# EAGLE library part HF62 (library con-subd)
HARTING SUB-D
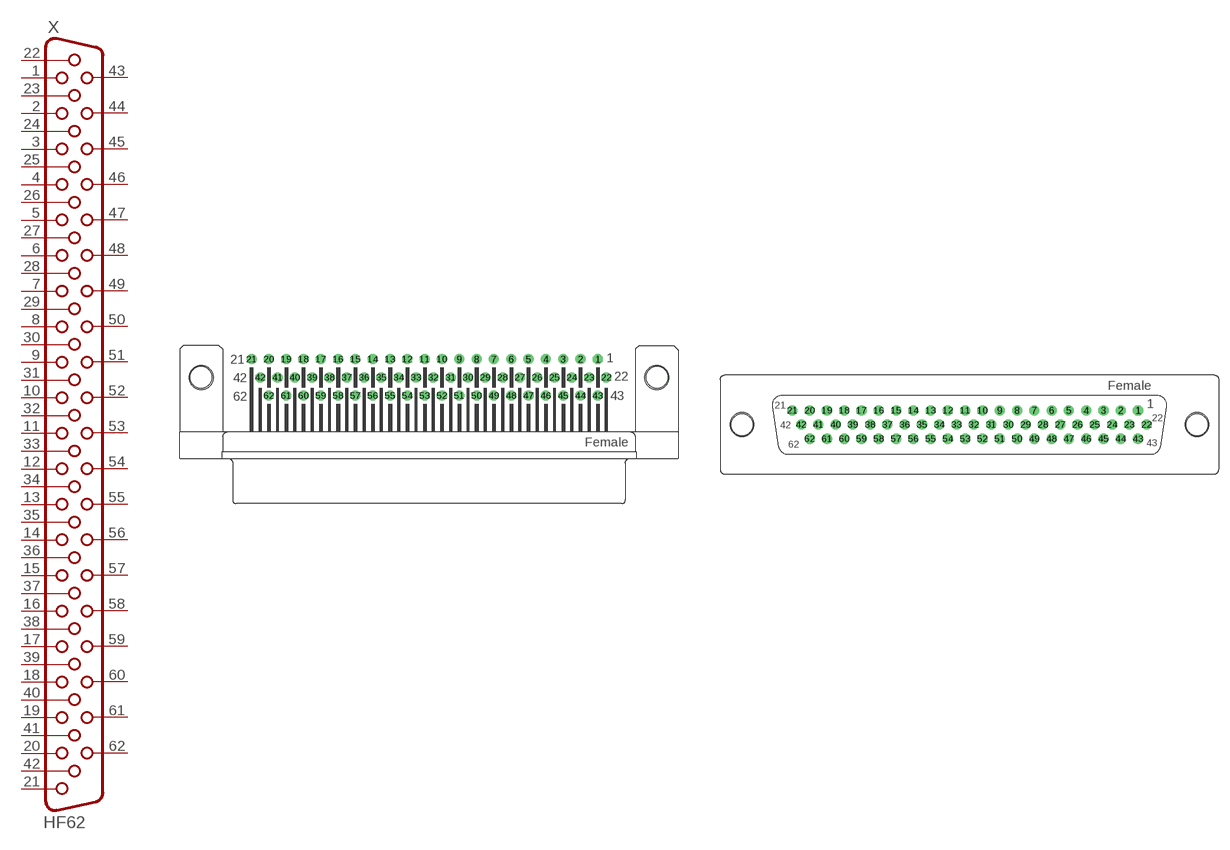
[diagram p7: symbol with the pads of HDF62H; footprints HDF62H, HDF62V]

Designator prefix X

## HF62H  [HDF62H]
1  1  pas
2  2  pas
3  3  pas
4  4  pas
5  5  pas
6  6  pas
7  7  pas
8  8  pas
9  9  pas
10  10  pas
11  11  pas
12  12  pas
13  13  pas
14  14  pas
15  15  pas
16  16  pas
17  17  pas
18  18  pas
19  19  pas
20  20  pas
21  21  pas
22  22  pas
23  23  pas
24  24  pas
25  25  pas
26  26  pas
27  27  pas
28  28  pas
29  29  pas
30  30  pas
31  31  pas
32  32  pas
33  33  pas
34  34  pas
35  35  pas
36  36  pas
37  37  pas
38  38  pas
39  39  pas
40  40  pas
41  41  pas
42  42  pas
43  43  pas
44  44  pas
45  45  pas
46  46  pas
47  47  pas
48  48  pas
49  49  pas
50  50  pas
51  51  pas
52  52  pas
53  53  pas
54  54  pas
55  55  pas
56  56  pas
57  57  pas
58  58  pas
59  59  pas
60  60  pas
61  61  pas
62  62  pas

## HF62V  [HDF62V]
Pads as for HDF62H

## Footprint HDF62H (pad centres in mm)
HARTING SUB-D
drill 0.9 octagon: 1 23.527,2.54
drill 0.9 round: 2 21.114,2.54; 3 18.701,2.54; 4 16.288,2.54; 5 13.875,2.54; 6 11.462,2.54; 7 9.049,2.54; 8 6.636,2.54; 9 4.223,2.54; 10 1.81,2.54; 11 -0.603,2.54; 12 -3.016,2.54; 13 -5.429,2.54; 14 -7.842,2.54; 15 -10.255,2.54; 16 -12.668,2.54; 17 -15.081,2.54; 18 -17.494,2.54; 19 -19.907,2.54; 20 -22.32,2.54; 21 -24.733,2.54; 22 24.734,0; 23 22.321,0; 24 19.908,0; 25 17.495,0; 26 15.082,0; 27 12.669,0; 28 10.256,0; 29 7.843,0; 30 5.43,0; 31 3.017,0; 32 0.604,0; 33 -1.809,0; 34 -4.222,0; 35 -6.635,0; 36 -9.048,0; 37 -11.461,0; 38 -13.874,0; 39 -16.287,0; 40 -18.7,0; 41 -21.113,0; 42 -23.526,0; 43 23.527,-2.54; 44 21.114,-2.54; 45 18.701,-2.54; 46 16.288,-2.54; 47 13.875,-2.54; 48 11.462,-2.54; 49 9.049,-2.54; 50 6.636,-2.54; 51 4.223,-2.54; 52 1.81,-2.54; 53 -0.603,-2.54; 54 -3.016,-2.54; 55 -5.429,-2.54; 56 -7.842,-2.54; 57 -10.255,-2.54; 58 -12.668,-2.54; 59 -15.081,-2.54; 60 -17.494,-2.54; 61 -19.907,-2.54; 62 -22.32,-2.54
hole 3 at -31.75,0
hole 3 at 31.75,0

## Footprint HDF62V (pad centres in mm)
HARTING SUB-D
drill 0.9 octagon: 1 23.532,1.98
drill 0.9 round: 2 21.119,1.98; 3 18.706,1.98; 4 16.293,1.98; 5 13.88,1.98; 6 11.467,1.98; 7 9.054,1.98; 8 6.641,1.98; 9 4.228,1.98; 10 1.815,1.98; 11 -0.598,1.98; 12 -3.011,1.98; 13 -5.424,1.98; 14 -7.837,1.98; 15 -10.25,1.98; 16 -12.663,1.98; 17 -15.076,1.98; 18 -17.489,1.98; 19 -19.902,1.98; 20 -22.315,1.98; 21 -24.728,1.98; 22 24.739,0; 23 22.325,0; 24 19.912,0; 25 17.499,0; 26 15.086,0; 27 12.673,0; 28 10.26,0; 29 7.847,0; 30 5.434,0; 31 3.021,0; 32 0.608,0; 33 -1.805,0; 34 -4.218,0; 35 -6.631,0; 36 -9.044,0; 37 -11.457,0; 38 -13.87,0; 39 -16.283,0; 40 -18.696,0; 41 -21.109,0; 42 -23.522,0; 43 23.532,-1.98; 44 21.119,-1.98; 45 18.706,-1.98; 46 16.293,-1.98; 47 13.88,-1.98; 48 11.467,-1.98; 49 9.054,-1.98; 50 6.641,-1.98; 51 4.228,-1.98; 52 1.815,-1.98; 53 -0.598,-1.98; 54 -3.011,-1.98; 55 -5.424,-1.98; 56 -7.837,-1.98; 57 -10.25,-1.98; 58 -12.663,-1.98; 59 -15.076,-1.98; 60 -17.489,-1.98; 61 -19.902,-1.98; 62 -22.315,-1.98
hole 3 at -31.75,0
hole 3 at 31.75,0